# EAGLE library part SI1539CDL-T1-GE3 (library Vishay_By_element14_Batch_1)
N- and P-Channel 30 V (D-S) MOSFET
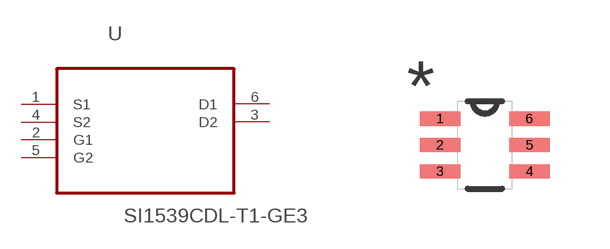
[diagram p75: symbol with the pads of SOT65P210X110-6N; footprint SOT65P210X110-6N]

Designator prefix U

## SI1539CDL-T1-GE3 (MPN: SI1539CDL-T1-GE3; OC_FARNELL: 2056712; OC_NEWARK: 64T4054; PACKAGE: SOT-363-3; SUPPLIER: VISHAY SILICONIX)  [SOT65P210X110-6N]
1  S1  in
2  G1  in
3  D2  out
4  S2  in
5  G2  in
6  D1  out

## Footprint SOT65P210X110-6N (pad centres in mm)
smd 1.016 x 0.356: 1 -1.118,0.66; 2 -1.118,0; 3 -1.118,-0.66; 4 1.118,-0.66; 5 1.118,0; 6 1.118,0.66